# Altium footprint library TO-263-4 (DPPAK).PcbLib: 1 footprints
Each footprint in its own frame and in the unit in brackets; x right, y up, seen from the top. Pads: shape width x height; smd on the part's side, far side on the other; paste and mask are expansions set on the pad; w line width, h text height; cw(c..) or ccw(c..) is an arc to the next point about the centre after c.
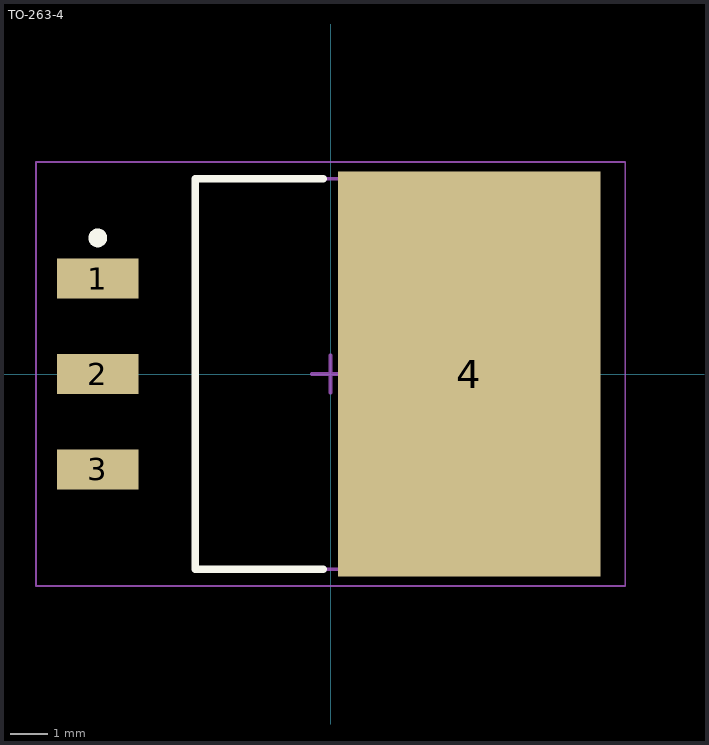
[diagram p0: the footprint, top view; thin cyan lines are the x and y axes]

## TO-263-4 [mm] "LM1085"
height 4.64
pads (4):
  rect 2.16x1.07 smd: 1(-6.2,2.54) 2(-6.2,0) 3(-6.2,-2.54)
  rect 6.99x10.8 smd: 4(3.7,0)
Top Overlay:
  circle w0.25: c-6.2,3.625 r0.125
  lines w0.2: -0.195,-5.2 -3.6,-5.2 -3.6,5.2 -0.195,5.2
Mechanical 13:
  lines w0.1: -3.6,-5.2 5.29,-5.2 5.29,5.2 -3.6,5.2 -3.6,-5.2
Mechanical 15:
  lines w0.05: -7.85,-5.65 7.85,-5.65 7.85,5.65 -7.85,5.65 -7.85,-5.65
  lines w0.1: -0.5,0 0.5,0 ; 0,-0.5 0,0.5
3D body "TO-263-4.step": height 4.64, standoff 0, extent -7.035,-5.2 7.315,5.2